# Altium schematic symbol library 2ConnectorLHS.SchLib: 1 symbol
Pins are listed as number, name and electrical type; pins without a type are passive.

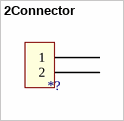
[diagram p0: symbol 2Connector]

## 2Connector
designator *, comment *?
footprint 2CONNECTOR
pins: 1, 2